# Altium schematic symbol library LED,Yellow,SMD,0603.Schlib: 1 symbol
Pins are listed as number, name and electrical type; pins without a type are passive.

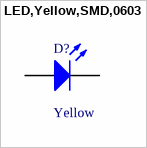
[diagram p0: symbol LED,Yellow,SMD,0603]

## LED,Yellow,SMD,0603
designator D?, comment Yellow
Yellow 591nm LED Indication - Discrete 2.1V 0603 (1608 Metric)
pins: A, C